# Altium footprint library 610 1xx 249 221.PcbLib: 10 footprints
Each footprint in its own frame and in the unit in brackets; x right, y up, seen from the top. Pads: shape width x height; smd on the part's side, far side on the other; paste and mask are expansions set on the pad; w line width, h text height; cw(c..) or ccw(c..) is an arc to the next point about the centre after c.
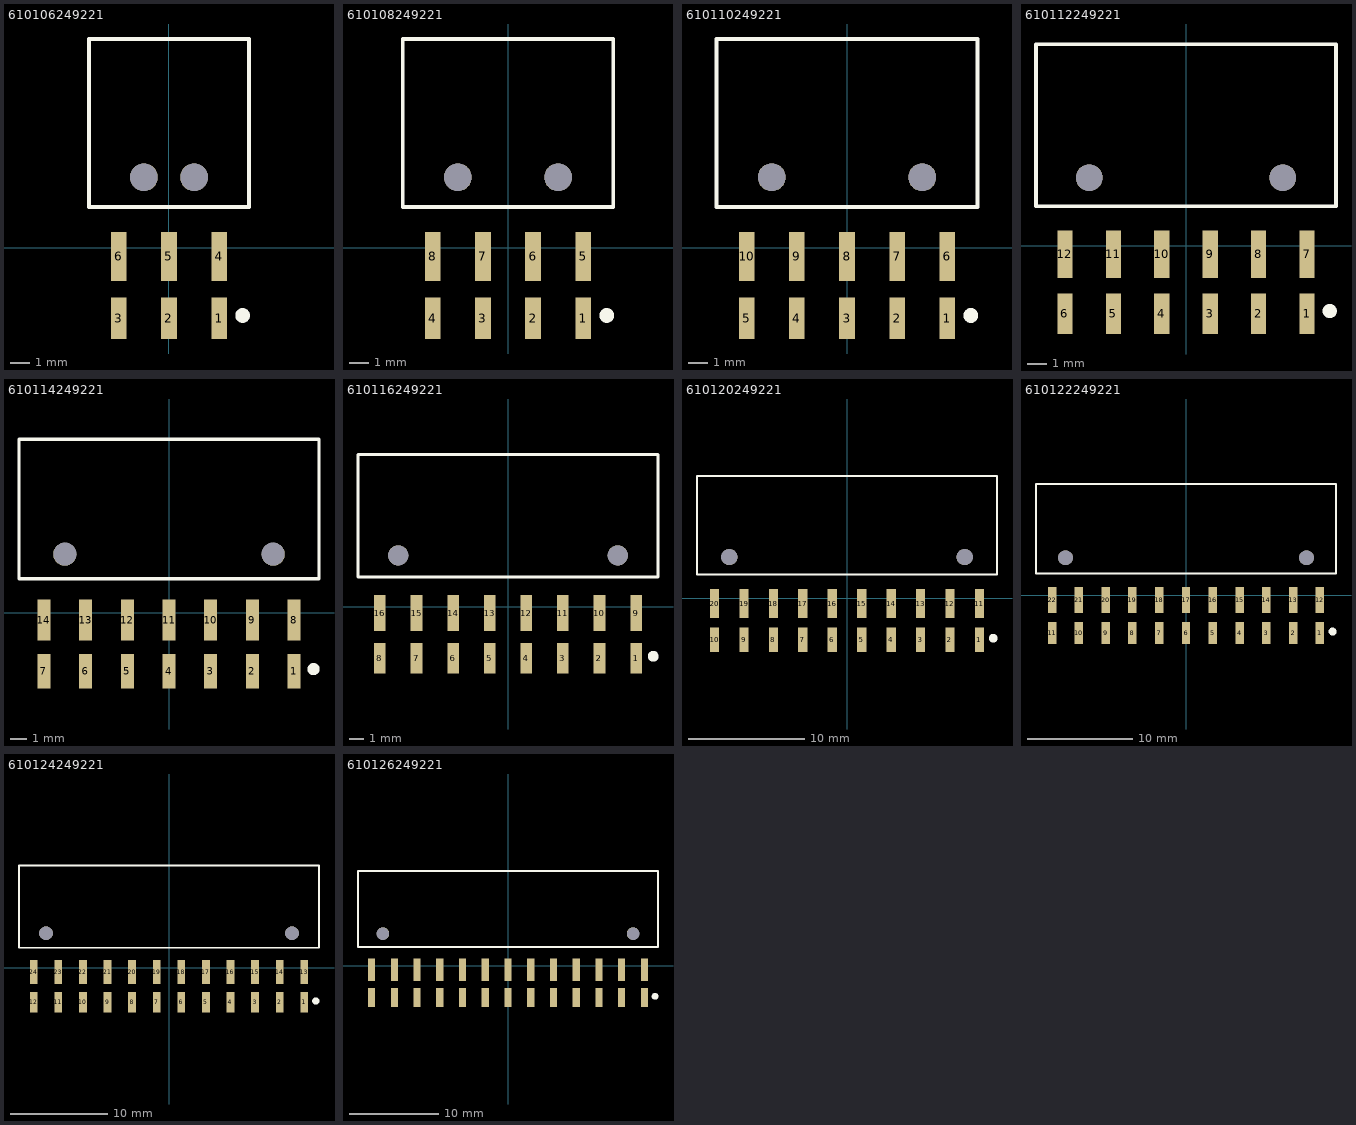
[diagram p0: the footprints below, top view; thin cyan lines are the x and y axes]

## 610106249221 [mm] "WR-PHD 2.54 mm Dual Socket Header 6 pins, dual pin, SMT horizontal, gold plating"
height 8.5
pads (8):
  rect 0.8x2.1 smd: 1(2.54,-3.57) 2(0,-3.57) 3(-2.54,-3.57)
  rect 0.8x2.5 smd: 4(2.54,-0.44) 5(0,-0.44) 6(-2.54,-0.44)
  round 1.4 hole 1.4 unplated: ""(-1.27,3.57) ""(1.27,3.57)
Top Overlay:
  circle w0.5: c3.73,-3.43 r0.122
  lines w0.2: -4.06,2.07 -4.06,10.57 4.06,10.57 4.06,2.07 -4.06,2.07
3D body "610106249221.stp": height 5, standoff -1.3, extent -4.06,-4.12 4.06,10.57

## 610108249221 [mm] "WR-PHD 2.54 mm Dual Socket Header 8 pins, dual pin, SMT horizontal, gold plating"
height 8.5
pads (10):
  rect 0.8x2.1 smd: 1(3.81,-3.57) 2(1.27,-3.57) 3(-1.27,-3.57) 4(-3.81,-3.57)
  rect 0.8x2.5 smd: 5(3.81,-0.44) 6(1.27,-0.44) 7(-1.27,-0.44) 8(-3.81,-0.44)
  round 1.4 hole 1.4 unplated: ""(-2.54,3.57) ""(2.54,3.57)
Top Overlay:
  circle w0.5: c5,-3.43 r0.122
  lines w0.2: -5.33,2.07 5.33,2.07 5.33,10.57 -5.33,10.57 -5.33,2.07
3D body "610108249221.stp": height 5, standoff -1.3, extent -5.33,-4.12 5.33,10.57

## 610110249221 [mm] "WR-PHD 2.54 mm Dual Socket Header 10 pins, dual pin, SMT horizontal, gold plating"
height 8.5
pads (12):
  rect 0.8x2.1 smd: 1(5.08,-3.57) 2(2.54,-3.57) 3(0,-3.57) 4(-2.54,-3.57) 5(-5.08,-3.57)
  rect 0.8x2.5 smd: 6(5.08,-0.44) 7(2.54,-0.44) 8(0,-0.44) 9(-2.54,-0.44) 10(-5.08,-0.44)
  round 1.4 hole 1.4 unplated: ""(-3.81,3.57) ""(3.81,3.57)
Top Overlay:
  circle w0.5: c6.27,-3.43 r0.122
  lines w0.2: -6.6,2.07 -6.6,10.57 6.6,10.57 6.6,2.07 -6.6,2.07
3D body "610110249221.stp": height 5, standoff -1.3, extent -6.6,-4.12 6.6,10.57

## 610112249221 [mm] "WR-PHD 2.54 mm Dual Socket Header 12 pins, dual pin, SMT horizontal, gold plating"
height 8.5
pads (14):
  rect 0.8x2.1 smd: 1(6.35,-3.57) 2(3.81,-3.57) 3(1.27,-3.57) 4(-1.27,-3.57) 5(-3.81,-3.57) 6(-6.35,-3.57)
  rect 0.8x2.5 smd: 7(6.35,-0.44) 8(3.81,-0.44) 9(1.27,-0.44) 10(-1.27,-0.44) 11(-3.81,-0.44) 12(-6.35,-0.44)
  round 1.4 hole 1.4 unplated: ""(-5.08,3.57) ""(5.08,3.57)
Top Overlay:
  circle w0.5: c7.54,-3.43 r0.122
  lines w0.2: -7.87,2.07 7.87,2.07 7.87,10.57 -7.87,10.57 -7.87,2.07
3D body "610112249221.stp": height 5, standoff -1.3, extent -7.87,-4.12 7.87,10.57

## 610114249221 [mm] "WR-PHD 2.54 mm Dual Socket Header 14 pins, dual pin, SMT horizontal, gold plating"
height 8.5
pads (16):
  rect 0.8x2.1 smd: 1(7.62,-3.57) 2(5.08,-3.57) 3(2.54,-3.57) 4(0,-3.57) 5(-2.54,-3.57) 6(-5.08,-3.57) 7(-7.62,-3.57)
  rect 0.8x2.5 smd: 8(7.62,-0.44) 9(5.08,-0.44) 10(2.54,-0.44) 11(0,-0.44) 12(-2.54,-0.44) 13(-5.08,-0.44) 14(-7.62,-0.44)
  round 1.4 hole 1.4 unplated: ""(-6.35,3.57) ""(6.35,3.57)
Top Overlay:
  circle w0.5: c8.81,-3.43 r0.122
  lines w0.2: -9.14,2.07 -9.14,10.57 9.14,10.57 9.14,2.07 -9.14,2.07
3D body "610114249221.stp": height 5, standoff -1.3, extent -9.14,-4.12 9.14,10.57

## 610116249221 [mm] "WR-PHD 2.54 mm Dual Socket Header 16 pins, dual pin, SMT horizontal, gold plating"
height 8.5
pads (18):
  rect 0.8x2.1 smd: 1(8.89,-3.57) 2(6.35,-3.57) 3(3.81,-3.57) 4(1.27,-3.57) 5(-1.27,-3.57) 6(-3.81,-3.57) 7(-6.35,-3.57) 8(-8.89,-3.57)
  rect 0.8x2.5 smd: 9(8.89,-0.44) 10(6.35,-0.44) 11(3.81,-0.44) 12(1.27,-0.44) 13(-1.27,-0.44) 14(-3.81,-0.44) 15(-6.35,-0.44) 16(-8.89,-0.44)
  round 1.4 hole 1.4 unplated: ""(-7.62,3.57) ""(7.62,3.57)
Top Overlay:
  circle w0.5: c10.08,-3.43 r0.122
  lines w0.2: -10.41,2.07 10.41,2.07 10.41,10.57 -10.41,10.57 -10.41,2.07
3D body "610116249221.stp": height 5, standoff -1.3, extent -10.41,-4.12 10.41,10.57

## 610120249221 [mm] "WR-PHD 2.54 mm Dual Socket Header 20 pins, dual pin, SMT horizontal, gold plating"
height 8.5
pads (22):
  rect 0.8x2.1 smd: 1(11.43,-3.57) 2(8.89,-3.57) 3(6.35,-3.57) 4(3.81,-3.57) 5(1.27,-3.57) 6(-1.27,-3.57) 7(-3.81,-3.57) 8(-6.35,-3.57) 9(-8.89,-3.57) 10(-11.43,-3.57)
  rect 0.8x2.5 smd: 11(11.43,-0.44) 12(8.89,-0.44) 13(6.35,-0.44) 14(3.81,-0.44) 15(1.27,-0.44) 16(-1.27,-0.44) 17(-3.81,-0.44) 18(-6.35,-0.44) 19(-8.89,-0.44) 20(-11.43,-0.44)
  round 1.4 hole 1.4 unplated: ""(-10.16,3.57) ""(10.16,3.57)
Top Overlay:
  circle w0.5: c12.62,-3.43 r0.122
  lines w0.2: -12.95,2.07 -12.95,10.57 12.95,10.57 12.95,2.07 -12.95,2.07
3D body "610120249221.stp": height 5, standoff -1.3, extent -12.95,-4.12 12.95,10.57

## 610122249221 [mm] "WR-PHD 2.54 mm Dual Socket Header 22 pins, dual pin, SMT horizontal, gold plating"
height 8.5
pads (24):
  rect 0.8x2.1 smd: 1(12.7,-3.57) 2(10.16,-3.57) 3(7.62,-3.57) 4(5.08,-3.57) 5(2.54,-3.57) 6(0,-3.57) 7(-2.54,-3.57) 8(-5.08,-3.57) 9(-7.62,-3.57) 10(-10.16,-3.57) 11(-12.7,-3.57)
  rect 0.8x2.5 smd: 12(12.7,-0.44) 13(10.16,-0.44) 14(7.62,-0.44) 15(5.08,-0.44) 16(2.54,-0.44) 17(0,-0.44) 18(-2.54,-0.44) 19(-5.08,-0.44) 20(-7.62,-0.44) 21(-10.16,-0.44) 22(-12.7,-0.44)
  round 1.4 hole 1.4 unplated: ""(-11.43,3.57) ""(11.43,3.57)
Top Overlay:
  circle w0.5: c13.89,-3.43 r0.122
  lines w0.2: -14.22,2.07 14.22,2.07 14.22,10.57 -14.22,10.57 -14.22,2.07
3D body "610122249221.stp": height 5, standoff -1.3, extent -14.22,-4.12 14.22,10.57

## 610124249221 [mm] "WR-PHD 2.54 mm Dual Socket Header 24 pins, dual pin, SMT horizontal, gold plating"
height 8.5
pads (26):
  rect 0.8x2.1 smd: 1(13.97,-3.57) 2(11.43,-3.57) 3(8.89,-3.57) 4(6.35,-3.57) 5(3.81,-3.57) 6(1.27,-3.57) 7(-1.27,-3.57) 8(-3.81,-3.57) 9(-6.35,-3.57) 10(-8.89,-3.57) 11(-11.43,-3.57) 12(-13.97,-3.57)
  rect 0.8x2.5 smd: 13(13.97,-0.44) 14(11.43,-0.44) 15(8.89,-0.44) 16(6.35,-0.44) 17(3.81,-0.44) 18(1.27,-0.44) 19(-1.27,-0.44) 20(-3.81,-0.44) 21(-6.35,-0.44) 22(-8.89,-0.44) 23(-11.43,-0.44) 24(-13.97,-0.44)
  round 1.4 hole 1.4 unplated: ""(-12.7,3.57) ""(12.7,3.57)
Top Overlay:
  circle w0.5: c15.16,-3.43 r0.122
  lines w0.2: -15.49,2.07 -15.49,10.57 15.49,10.57 15.49,2.07 -15.49,2.07
3D body "610124249221.stp": height 5, standoff -1.3, extent -15.49,-4.12 15.49,10.57

## 610126249221 [mm] "WR-PHD 2.54 mm Dual Socket Header 26 pins, dual pin, SMT horizontal, gold plating"
height 8.5
pads (28):
  rect 0.8x2.1 smd: 1(15.24,-3.57) 2(12.7,-3.57) 3(10.16,-3.57) 4(7.62,-3.57) 5(5.08,-3.57) 6(2.54,-3.57) 7(0,-3.57) 8(-2.54,-3.57) 9(-5.08,-3.57) 10(-7.62,-3.57) 11(-10.16,-3.57) 12(-12.7,-3.57) 13(-15.24,-3.57)
  rect 0.8x2.5 smd: 14(15.24,-0.44) 15(12.7,-0.44) 16(10.16,-0.44) 17(7.62,-0.44) 18(5.08,-0.44) 19(2.54,-0.44) 20(0,-0.44) 21(-2.54,-0.44) 22(-5.08,-0.44) 23(-7.62,-0.44) 24(-10.16,-0.44) 25(-12.7,-0.44) 26(-15.24,-0.44)
  round 1.4 hole 1.4 unplated: ""(-13.97,3.57) ""(13.97,3.57)
Top Overlay:
  circle w0.5: c16.43,-3.43 r0.122
  lines w0.2: -16.76,2.07 16.76,2.07 16.76,10.57 -16.76,10.57 -16.76,2.07
3D body "610126249221.stp": height 5, standoff -1.3, extent -16.76,-4.12 16.76,10.57